# Altium schematic symbol library DPX2012LL75R2455A.SchLib: 1 symbol
Pins are listed as number, name and electrical type; pins without a type are passive.

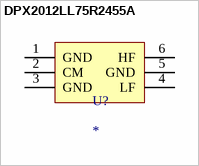
[diagram p0: symbol DPX2012LL75R2455A]

## DPX2012LL75R2455A
designator U?
RF DIPLEXER SMD 2.4G/5G 0805 /
pins: 1 GND (power), 2 CM (power), 3 GND (power), 4 LF (power), 5 GND (power), 6 HF (power)